# Altium footprint library discret.PcbLib: 21 footprints (part 2 of 2)
Each footprint in its own frame and in the unit in brackets; x right, y up, seen from the top. Pads: shape width x height; smd on the part's side, far side on the other; paste and mask are expansions set on the pad; w line width, h text height; cw(c..) or ccw(c..) is an arc to the next point about the centre after c.
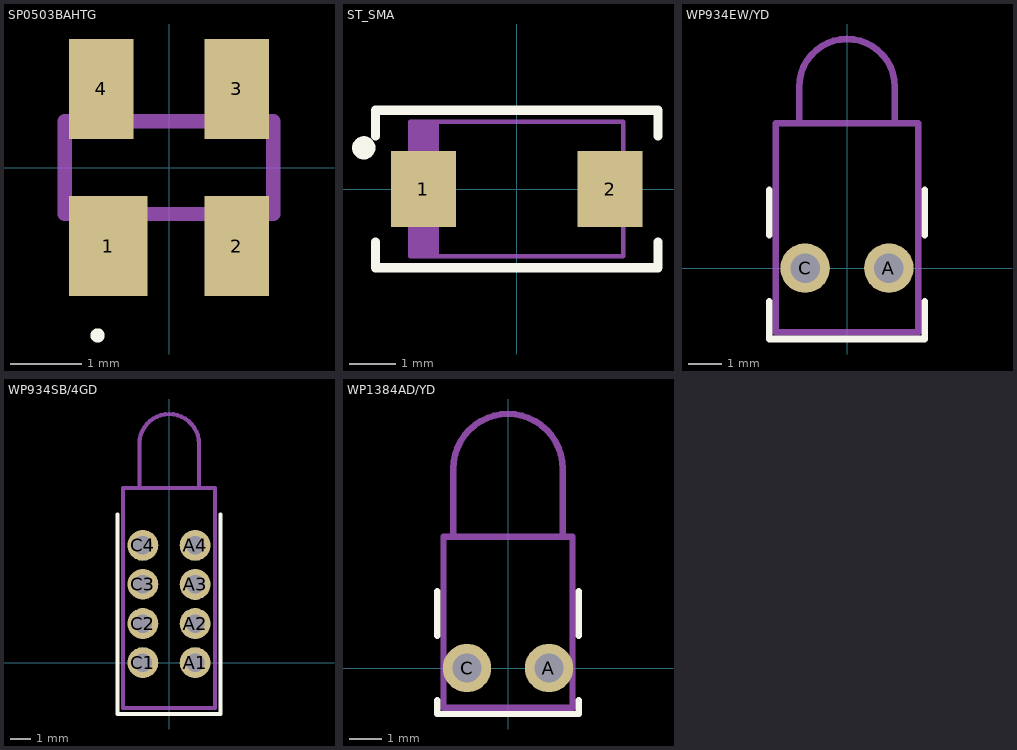
[diagram p1: the footprints below, top view; thin cyan lines are the x and y axes]

## SP0503BAHTG [mm]
pads (4):
  rect 1.1x1.4 smd: 1(-0.85,-1.1)
  rect 0.9x1.4 smd: 2(0.95,-1.1) 3(0.95,1.1) 4(-0.95,1.1)
Top Overlay:
  lines w0.1: -1,-2.4 ccw(c-1,-2.35) -1,-2.3 ccw(c-1,-2.35) -1,-2.4
Mechanical 13:
  lines w0.2: -1.46,-0.65 1.46,-0.65 1.46,0.65 -1.46,0.65 -1.46,-0.65
3D body "SP0503BAHTG.stp": height 1.23, standoff 0.01, extent -1.32,-1.32 1.32,1.72

## ST_SMA [mm]
height 2.65
pads (2):
  rect 1.4x1.64 smd: 1(-2.015,0) 2(2.015,0)
Top Overlay:
  circle w0.25: c-3.302,0.889 r0.125
  lines w0.2: -3.05,1.143 -3.05,1.7 3.05,1.7 ; -3.048,-1.143 -3.05,-1.7 3.05,-1.7 3.05,-1.145 ; 3.048,1.143 3.048,1.698
Mechanical 13:
  rectangle: -2.3,-1.45 -1.681,1.45
  lines w0.1: -2.3,-1.45 -2.3,1.45 2.3,1.45 2.3,-1.45 -2.3,-1.45
3D body "CAPM3216X18N.step": height 2.65, standoff 0, extent -2.52,-1.45 2.52,1.45

## WP934EW/YD [mm] "Kingbright"
height 7.3
pads (2):
  round 1.5 hole 0.9: A(1.27,0) C(-1.27,0)
Top Overlay:
  lines w0.2: -2.36,-1 -2.36,-2.15 2.36,-2.15 2.36,-1 ; -2.36,1 -2.36,2.375 ; 2.36,1 2.36,2.375
Mechanical 13:
  lines w0.2: -1.45,4.4 -1.45,5.5 cw(c0,5.5) 1.45,5.5 1.45,4.4 ; -2.16,-1.95 2.16,-1.95 2.16,4.4 -2.16,4.4 -2.16,-1.95
3D body "WP934EW-YD.STEP": height 7.35, standoff -3.63, extent -2.16,-1.95 2.16,6.94

## WP934SB/4GD [mm] "Kingbright"
height 20.3
pads (8):
  round 1.5 hole 0.9: A1(1.27,0) A2(1.27,1.9) A3(1.27,3.8) A4(1.27,5.7) C1(-1.27,0) C2(-1.27,1.9) C3(-1.27,3.81) C4(-1.27,5.7)
Top Overlay:
  lines w0.2: -2.5,7.2 -2.5,-2.5 2.5,-2.5 2.5,7.2
Mechanical 13:
  lines w0.2: 0.01,8.49 -1.44,8.49 -1.44,10.64 cw(c0.01,10.64) 1.46,10.64 1.46,8.49 ; -2.23,-2.21 -2.23,8.49 2.23,8.49 2.23,-2.21 -2.23,-2.21
3D body "934SB.STEP": height 20.4, standoff -3.58, extent -2.23,-2.21 2.23,12.09

## WP1384AD/YD [mm] "Kingbright"
height 6.35
pads (2):
  round 1.5 hole 0.9: A(1.27,0) C(-1.27,0)
Top Overlay:
  lines w0.2: -2.2,-1 -2.2,-1.425 2.2,-1.425 2.2,-1 ; -2.2,1 -2.2,2.375 ; 2.2,1 2.2,2.375
Mechanical 13:
  lines w0.2: -1.7,4.075 -1.7,6.175 cw(c0,6.175) 1.7,6.175 1.7,4.075 ; -2,-1.225 2,-1.225 2,4.075 -2,4.075 -2,-1.225
3D body "WP1384AD.STEP": height 6.38, standoff -3.47, extent -2,-1.225 2,7.875